# EAGLE library part BLUETOOTH-RN41 (library wsn)
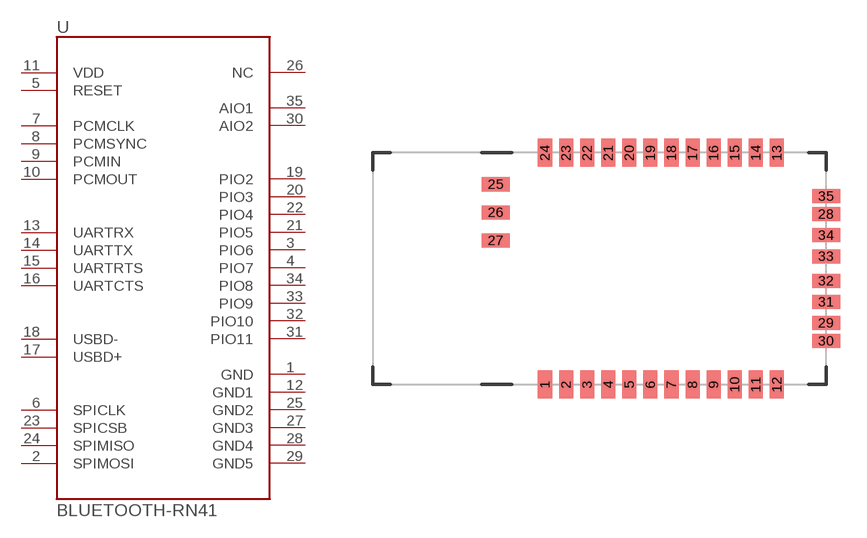
[diagram p134: symbol with the pads of RN41; footprint RN41]

Designator prefix -

## BLUETOOTH-RN41"  [RN41]
1  GND
2  SPIMOSI
3  PIO6
4  PIO7
5  RESET
6  SPICLK
7  PCMCLK
8  PCMSYNC
9  PCMIN
10  PCMOUT
11  VDD
12  GND1
13  UARTRX
14  UARTTX
15  UARTRTS
16  UARTCTS
17  USBD+
18  USBD-
19  PIO2
20  PIO3
21  PIO5
22  PIO4
23  SPICSB
24  SPIMISO
25  GND2
26  NC
27  GND3
28  GND4
29  GND5
30  AIO2
31  PIO11
32  PIO10
33  PIO9
34  PIO8
35  AIO1

## Footprint RN41 (pad centres in mm)
smd 0.8 x 1.6: 1 -6.6,-6.6; 2 -5.4,-6.6; 3 -4.2,-6.6; 4 -3,-6.6; 5 -1.8,-6.6; 6 -0.6,-6.6; 7 0.6,-6.6; 8 1.8,-6.6; 9 3,-6.6; 10 4.2,-6.6; 11 5.4,-6.6; 12 6.6,-6.6; 13 6.6,6.6; 14 5.4,6.6; 15 4.2,6.6; 16 3,6.6; 17 1.8,6.6; 18 0.6,6.6; 19 -0.6,6.6; 20 -1.8,6.6; 21 -3,6.6; 22 -4.2,6.6; 23 -5.4,6.6; 24 -6.6,6.6
smd 1.6 x 0.8: 25 -9.4,4.8; 26 -9.4,3.2; 27 -9.4,1.6; 28 9.4,3.1; 29 9.4,-3.1; 30 9.4,-4.122; 31 9.4,-1.9; 32 9.4,-0.7; 33 9.4,0.7; 34 9.4,1.9; 35 9.4,4.122